# Altium footprint library MAX1793EUE33&plus_.PcbLib: 3 footprints
Each footprint in its own frame and in the unit in brackets; x right, y up, seen from the top. Pads: shape width x height; smd on the part's side, far side on the other; paste and mask are expansions set on the pad; w line width, h text height; cw(c..) or ccw(c..) is an arc to the next point about the centre after c.
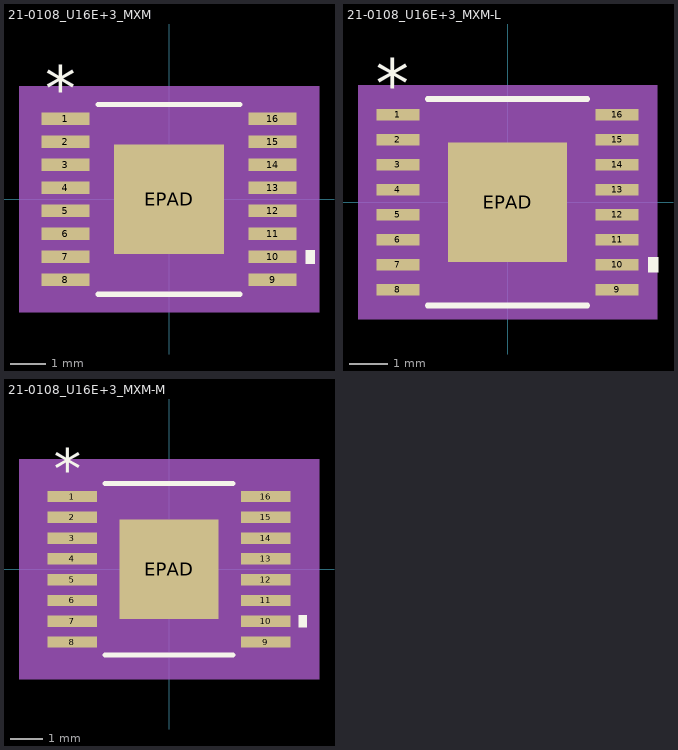
[diagram p0: the footprints below, top view; thin cyan lines are the x and y axes]

## 21-0108_U16E+3_MXM [mm]
pads (17):
  rect 1.353x0.355 smd paste+0 mask+0: 1(-2.925,2.275) 2(-2.925,1.625) 3(-2.925,0.975) 4(-2.925,0.325) 5(-2.925,-0.325) 6(-2.925,-0.975) 7(-2.925,-1.625) 8(-2.925,-2.275) 9(2.925,-2.275) 10(2.925,-1.625) 11(2.925,-0.975) 12(2.925,-0.325) 13(2.925,0.325) 14(2.925,0.975) 15(2.925,1.625) 16(2.925,2.275)
  rect 3.099x3.099 smd paste-1.537 mask+0: EPAD(0,0)
Top Overlay:
  region: 3.855,-1.435 4.109,-1.435 4.109,-1.816 3.855,-1.816
  lines w0.152: -2.005,-2.68 2.005,-2.68 ; -2.005,2.68 2.005,2.68
  text "*" at -3.496,2.503 h1.27
Top Paste:
  region: -0.1,1.449 -1.449,1.449 -1.449,0.1 -0.1,0.1
  region: -0.1,-0.1 -1.449,-0.1 -1.449,-1.449 -0.1,-1.449
  region: 1.449,1.449 0.1,1.449 0.1,0.1 1.449,0.1
  region: 1.449,-0.1 0.1,-0.1 0.1,-1.449 1.449,-1.449
Mechanical 5:
  region: 4.236,-3.188 -4.236,-3.188 -4.236,3.188 4.236,3.188
Mechanical 13:
  lines w0: -0.305,2.553 ccw(c0,2.553) 0.305,2.553
  lines w0.025: -3.251,-2.427 -3.251,-2.123 -2.248,-2.123 -2.248,-2.427 -3.251,-2.427 ; -3.251,-1.777 -3.251,-1.473 -2.248,-1.473 -2.248,-1.777 -3.251,-1.777 ; -3.251,-1.127 -3.251,-0.823 -2.248,-0.823 -2.248,-1.127 -3.251,-1.127 ; -3.251,-0.477 -3.251,-0.173 -2.248,-0.173 -2.248,-0.477 -3.251,-0.477 ; -3.251,0.173 -3.251,0.477 -2.248,0.477 -2.248,0.173 -3.251,0.173 ; -3.251,0.823 -3.251,1.127 -2.248,1.127 -2.248,0.823 -3.251,0.823 ; -3.251,1.473 -3.251,1.777 -2.248,1.777 -2.248,1.473 -3.251,1.473 ; -3.251,2.123 -3.251,2.427 -2.248,2.427 -2.248,2.123 -3.251,2.123 ; -2.248,-2.553 2.248,-2.553 2.248,2.553 -2.248,2.553 -2.248,-2.553 ; 2.248,-2.427 2.248,-2.123 3.251,-2.123 3.251,-2.427 2.248,-2.427 ; 2.248,-1.777 2.248,-1.473 3.251,-1.473 3.251,-1.777 2.248,-1.777 ; 2.248,-1.127 2.248,-0.823 3.251,-0.823 3.251,-1.127 2.248,-1.127 ; 2.248,-0.477 2.248,-0.173 3.251,-0.173 3.251,-0.477 2.248,-0.477 ; 2.248,0.173 2.248,0.477 3.251,0.477 3.251,0.173 2.248,0.173 ; 2.248,0.823 2.248,1.127 3.251,1.127 3.251,0.823 2.248,0.823 ; 2.248,1.473 2.248,1.777 3.251,1.777 3.251,1.473 2.248,1.473 ; 2.248,2.123 2.248,2.427 3.251,2.427 3.251,2.123 2.248,2.123
  text "*" at -2.184,1.206 h1.27
Mechanical 15:
  region: -2.502,-2.706 -3.855,-2.706 -3.855,2.706 -2.502,2.706 -2.502,2.807 2.502,2.807 2.502,2.706 3.855,2.706 3.855,-2.706 2.502,-2.706 2.502,-2.807 -2.502,-2.807
  lines w0.152: -3.855,-2.706 -3.855,2.706 -2.502,2.706 -2.502,2.807 2.502,2.807 2.502,2.706 3.855,2.706 3.855,-2.706 2.502,-2.706 2.502,-2.807 -2.502,-2.807 -2.502,-2.706 -3.855,-2.706
3D body "21-0108_U16E+3_MXM.step": height 1.09, standoff -0.05, extent -3.251,-2.553 3.251,2.553

## 21-0108_U16E+3_MXM-L [mil]
pads (17):
  rect 43.75x12 smd paste+0 mask+0: 1(-112.03,89.57) 2(-112.03,63.98) 3(-112.03,38.39) 4(-112.03,12.8) 5(-112.03,-12.8) 6(-112.03,-38.39) 7(-112.03,-63.98) 8(-112.03,-89.57) 9(112.03,-89.57) 10(112.03,-63.98) 11(112.03,-38.39) 12(112.03,-12.8) 13(112.03,12.8) 14(112.03,38.39) 15(112.03,63.98) 16(112.03,89.57)
  rect 122x122 smd paste-60.5 mask+0: EPAD(0,0)
Top Overlay:
  region: 143.91,-56.48 153.91,-56.48 153.91,-71.48 143.91,-71.48
  lines w6: -81.62,-105.5 81.62,-105.5 ; -81.62,105.5 81.62,105.5
  text "*" at -134.53,96.57 h50
Top Paste:
  region: -3.94,57.06 -57.06,57.06 -57.06,3.94 -3.94,3.94
  region: -3.94,-3.94 -57.06,-3.94 -57.06,-57.06 -3.94,-57.06
  region: 57.06,57.06 3.94,57.06 3.94,3.94 57.06,3.94
  region: 57.06,-3.94 3.94,-3.94 3.94,-57.06 57.06,-57.06
Mechanical 5:
  region: 152.91,-119.5 -152.91,-119.5 -152.91,119.5 152.91,119.5
Mechanical 13:
  lines w0: -12,100.5 ccw(c0,100.5) 12,100.5
  lines w1: -128,-95.57 -128,-83.57 -88.5,-83.57 -88.5,-95.57 -128,-95.57 ; -128,-69.98 -128,-57.98 -88.5,-57.98 -88.5,-69.98 -128,-69.98 ; -128,-44.39 -128,-32.39 -88.5,-32.39 -88.5,-44.39 -128,-44.39 ; -128,-18.8 -128,-6.8 -88.5,-6.8 -88.5,-18.8 -128,-18.8 ; -128,6.8 -128,18.8 -88.5,18.8 -88.5,6.8 -128,6.8 ; -128,32.39 -128,44.39 -88.5,44.39 -88.5,32.39 -128,32.39 ; -128,57.98 -128,69.98 -88.5,69.98 -88.5,57.98 -128,57.98 ; -128,83.57 -128,95.57 -88.5,95.57 -88.5,83.57 -128,83.57 ; -88.5,-100.5 88.5,-100.5 88.5,100.5 -88.5,100.5 -88.5,-100.5 ; 88.5,-95.57 88.5,-83.57 128,-83.57 128,-95.57 88.5,-95.57 ; 88.5,-69.98 88.5,-57.98 128,-57.98 128,-69.98 88.5,-69.98 ; 88.5,-44.39 88.5,-32.39 128,-32.39 128,-44.39 88.5,-44.39 ; 88.5,-18.8 88.5,-6.8 128,-6.8 128,-18.8 88.5,-18.8 ; 88.5,6.8 88.5,18.8 128,18.8 128,6.8 88.5,6.8 ; 88.5,32.39 88.5,44.39 128,44.39 128,32.39 88.5,32.39 ; 88.5,57.98 88.5,69.98 128,69.98 128,57.98 88.5,57.98 ; 88.5,83.57 88.5,95.57 128,95.57 128,83.57 88.5,83.57
  text "*" at -86,47.5 h50
Mechanical 15:
  region: -92.5,-99.57 -137.91,-99.57 -137.91,99.57 -92.5,99.57 -92.5,104.5 92.5,104.5 92.5,99.57 137.91,99.57 137.91,-99.57 92.5,-99.57 92.5,-104.5 -92.5,-104.5
  lines w6: -137.91,-99.57 -137.91,99.57 -92.5,99.57 -92.5,104.5 92.5,104.5 92.5,99.57 137.91,99.57 137.91,-99.57 92.5,-99.57 92.5,-104.5 -92.5,-104.5 -92.5,-99.57 -137.91,-99.57
3D body "21-0108_U16E+3_MXM.step": height 43.11, standoff -2.01, extent -127.99,-100.51 127.99,100.51

## 21-0108_U16E+3_MXM-M [mm]
pads (17):
  rect 1.553x0.355 smd paste+0 mask+0: 1(-3.025,2.275) 2(-3.025,1.625) 3(-3.025,0.975) 4(-3.025,0.325) 5(-3.025,-0.325) 6(-3.025,-0.975) 7(-3.025,-1.625) 8(-3.025,-2.275) 9(3.025,-2.275) 10(3.025,-1.625) 11(3.025,-0.975) 12(3.025,-0.325) 13(3.025,0.325) 14(3.025,0.975) 15(3.025,1.625) 16(3.025,2.275)
  rect 3.099x3.099 smd paste-1.537 mask+0: EPAD(0,0)
Top Overlay:
  region: 4.055,-1.435 4.309,-1.435 4.309,-1.816 4.055,-1.816
  lines w0.152: -2.005,-2.68 2.005,-2.68 ; -2.005,2.68 2.005,2.68
  text "*" at -3.596,2.503 h1.27
Top Paste:
  region: -0.1,1.449 -1.449,1.449 -1.449,0.1 -0.1,0.1
  region: -0.1,-0.1 -1.449,-0.1 -1.449,-1.449 -0.1,-1.449
  region: 1.449,1.449 0.1,1.449 0.1,0.1 1.449,0.1
  region: 1.449,-0.1 0.1,-0.1 0.1,-1.449 1.449,-1.449
Mechanical 5:
  region: 4.69,-3.442 -4.69,-3.442 -4.69,3.442 4.69,3.442
Mechanical 13:
  lines w0: -0.305,2.553 ccw(c0,2.553) 0.305,2.553
  lines w0.025: -3.251,-2.427 -3.251,-2.123 -2.248,-2.123 -2.248,-2.427 -3.251,-2.427 ; -3.251,-1.777 -3.251,-1.473 -2.248,-1.473 -2.248,-1.777 -3.251,-1.777 ; -3.251,-1.127 -3.251,-0.823 -2.248,-0.823 -2.248,-1.127 -3.251,-1.127 ; -3.251,-0.477 -3.251,-0.173 -2.248,-0.173 -2.248,-0.477 -3.251,-0.477 ; -3.251,0.173 -3.251,0.477 -2.248,0.477 -2.248,0.173 -3.251,0.173 ; -3.251,0.823 -3.251,1.127 -2.248,1.127 -2.248,0.823 -3.251,0.823 ; -3.251,1.473 -3.251,1.777 -2.248,1.777 -2.248,1.473 -3.251,1.473 ; -3.251,2.123 -3.251,2.427 -2.248,2.427 -2.248,2.123 -3.251,2.123 ; -2.248,-2.553 2.248,-2.553 2.248,2.553 -2.248,2.553 -2.248,-2.553 ; 2.248,-2.427 2.248,-2.123 3.251,-2.123 3.251,-2.427 2.248,-2.427 ; 2.248,-1.777 2.248,-1.473 3.251,-1.473 3.251,-1.777 2.248,-1.777 ; 2.248,-1.127 2.248,-0.823 3.251,-0.823 3.251,-1.127 2.248,-1.127 ; 2.248,-0.477 2.248,-0.173 3.251,-0.173 3.251,-0.477 2.248,-0.477 ; 2.248,0.173 2.248,0.477 3.251,0.477 3.251,0.173 2.248,0.173 ; 2.248,0.823 2.248,1.127 3.251,1.127 3.251,0.823 2.248,0.823 ; 2.248,1.473 2.248,1.777 3.251,1.777 3.251,1.473 2.248,1.473 ; 2.248,2.123 2.248,2.427 3.251,2.427 3.251,2.123 2.248,2.123
  text "*" at -2.184,1.206 h1.27
Mechanical 15:
  region: -2.756,-2.96 -4.309,-2.96 -4.309,2.96 -2.756,2.96 -2.756,3.061 2.756,3.061 2.756,2.96 4.309,2.96 4.309,-2.96 2.756,-2.96 2.756,-3.061 -2.756,-3.061
  lines w0.152: -4.309,-2.96 -4.309,2.96 -2.756,2.96 -2.756,3.061 2.756,3.061 2.756,2.96 4.309,2.96 4.309,-2.96 2.756,-2.96 2.756,-3.061 -2.756,-3.061 -2.756,-2.96 -4.309,-2.96
3D body "21-0108_U16E+3_MXM.step": height 1.09, standoff -0.05, extent -3.251,-2.553 3.251,2.553